# Altium schematic symbol library DRV8302DCAR.SchLib: 1 symbol
Pins are listed as number, name and electrical type; pins without a type are passive.

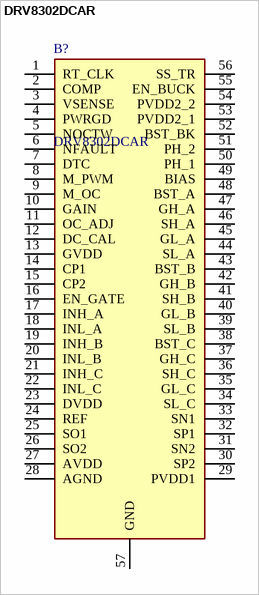
[diagram p0: symbol DRV8302DCAR]

## DRV8302DCAR
designator B?
3-Phase Brushless Motor Pre-Driver with Dual Current Sense Amps and Buck Converter (PWM Ctrl); Manufacturer_Name: Texas Instruments; Geometry.Height: 1.2mm; Manufacturer_Part_Number: DRV8302DCAR; Mouser Part Number: 595-DRV8302DCAR; Mouser Price/Stock: https://www.mouser.co.uk/ProductDetail/Texas-Instruments/DRV8302DCAR?qs=UMk2QrKu%2FwyEhbV7PXJXLQ%3D%3D; Arrow Part Number: DRV8302DCAR; Arrow Price/Stock: https://www.arrow.com/en/products/drv8302dcar/texas-instruments?utm_currency=USD&region=nac; Datasheet Link: http://www.ti.com/lit/gpn/drv8302
footprint SOP50P810X120-57N
pins: 1 RT_CLK, 2 COMP, 3 VSENSE, 4 PWRGD, 5 NOCTW, 6 NFAULT, 7 DTC, 8 M_PWM, 9 M_OC, 10 GAIN, 11 OC_ADJ, 12 DC_CAL, 13 GVDD, 14 CP1, 15 CP2, 16 EN_GATE, 17 INH_A, 18 INL_A, 19 INH_B, 20 INL_B, 21 INH_C, 22 INL_C, 23 DVDD, 24 REF, 25 SO1, 26 SO2, 27 AVDD, 28 AGND, 29 PVDD1, 30 SP2, 31 SN2, 32 SP1, 33 SN1, 34 SL_C, 35 GL_C, 36 SH_C, 37 GH_C, 38 BST_C, 39 SL_B, 40 GL_B, 41 SH_B, 42 GH_B, 43 BST_B, 44 SL_A, 45 GL_A, 46 SH_A, 47 GH_A, 48 BST_A, 49 BIAS, 50 PH_1, 51 PH_2, 52 BST_BK, 53 PVDD2_1, 54 PVDD2_2, 55 EN_BUCK, 56 SS_TR, 57 GND